# Altium footprint library Capacitors.PcbLib: 29 footprints (part 2 of 2)
Each footprint in its own frame and in the unit in brackets; x right, y up, seen from the top. Pads: shape width x height; smd on the part's side, far side on the other; paste and mask are expansions set on the pad; w line width, h text height; cw(c..) or ccw(c..) is an arc to the next point about the centre after c.
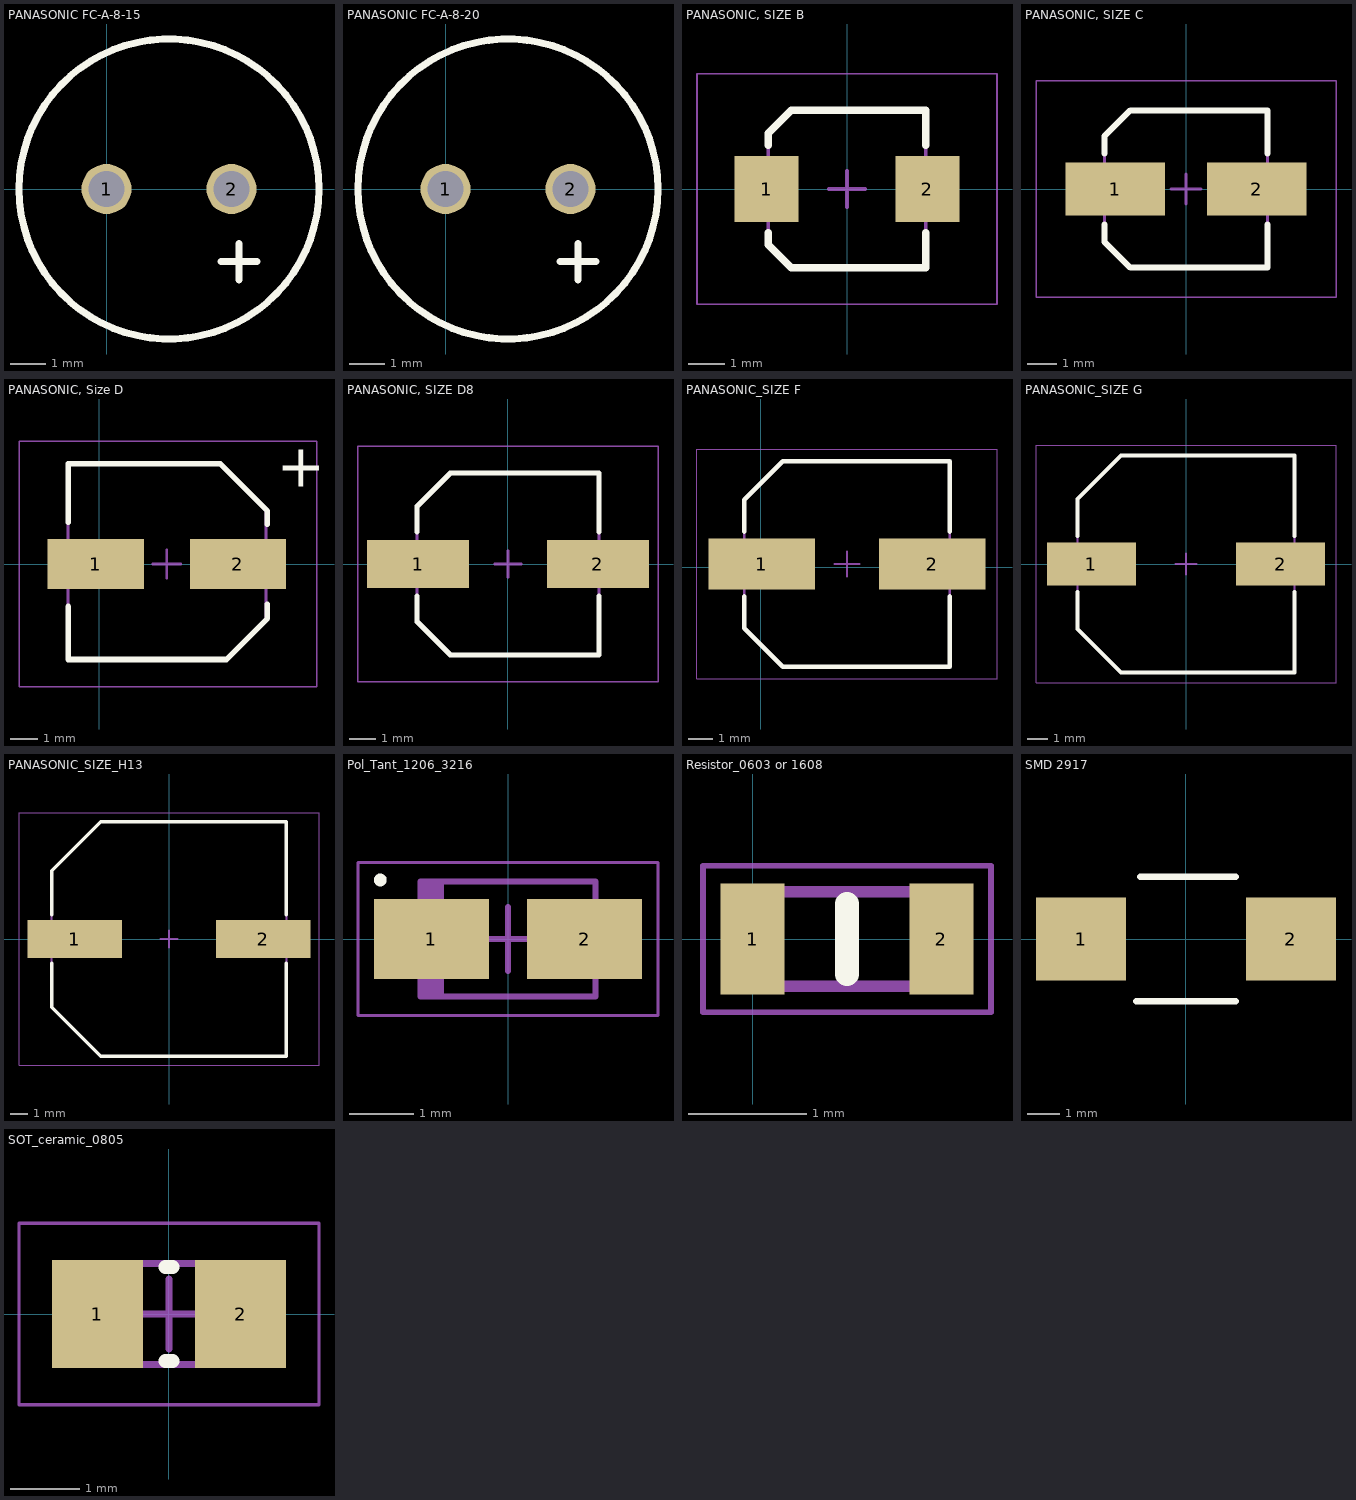
[diagram p1: the footprints below, top view; thin cyan lines are the x and y axes]

## PANASONIC FC-A-8-15 [mm]
pads (2):
  round 1.4 hole 1: 1(0,0) 2(3.5,0)
Top Overlay:
  circle w0.2: c1.75,0 r4.2
  lines w0.2: 3.202,-2.032 4.218,-2.032 ; 3.71,-2.54 3.71,-1.524
3D body: height 15, standoff 0, extent -2.222,-3.997 5.778,3.997

## PANASONIC FC-A-8-20 [mm]
pads (2):
  round 1.4 hole 1: 1(0,0) 2(3.5,0)
Top Overlay:
  circle w0.2: c1.75,0 r4.2
  lines w0.2: 3.202,-2.032 4.218,-2.032 ; 3.71,-2.54 3.71,-1.524
3D body: height 20, standoff 0, extent -2.222,-3.997 5.778,3.997

## PANASONIC, SIZE B [mm]
height 5.5
pads (2):
  rect 1.75x1.8 smd: 1(-2.2,0) 2(2.2,0)
Top Overlay:
  lines w0.2: -2.15,-1.2 -2.15,-1.525 -1.525,-2.15 2.15,-2.15 2.15,-1.2 ; -2.15,1.2 -2.15,1.525 -1.525,2.15 2.15,2.15 2.15,1.2
Mechanical 13:
  lines w0.1: -2.15,-1.525 -2.15,1.525 -1.525,2.15 2.15,2.15 2.15,-2.15 -1.525,-2.15 -2.15,-1.525
Mechanical 15:
  lines w0.05: -4.1,-3.15 4.1,-3.15 4.1,3.15 -4.1,3.15 -4.1,-3.15
  lines w0.1: -0.5,0 0.5,0 ; 0,-0.5 0,0.5
3D body "PANASONIC, SIZE B.step": height 5.5, standoff 0, extent -2.3,-2.15 2.3,2.15

## PANASONIC, SIZE C [mm] "PANASONIC, SIZE C"
height 6.1
pads (2):
  rect 3.35x1.8 smd: 1(-2.375,0) 2(2.375,0)
Top Overlay:
  lines w0.2: -2.75,-1.2 -2.75,-1.775 -1.875,-2.65 2.75,-2.65 2.75,-1.2 ; -2.75,1.2 -2.75,1.775 -1.875,2.65 2.75,2.65 2.75,1.2
Mechanical 13:
  lines w0.1: -2.75,-1.775 -2.75,1.775 -1.875,2.65 2.75,2.65 2.75,-2.65 -1.875,-2.65 -2.75,-1.775
Mechanical 15:
  lines w0.05: -5.05,-3.65 5.05,-3.65 5.05,3.65 -5.05,3.65 -5.05,-3.65
  lines w0.1: -0.5,0 0.5,0 ; 0,-0.5 0,0.5
3D body "PANASONIC, SIZE C.step": height 6.1, standoff 0, extent -3.25,-2.65 3.25,2.65

## PANASONIC, Size D [mm]
pads (2):
  rect 3.45x1.8 smd: 1(-0.137,0) 2(4.963,0)
Top Overlay:
  lines w0.2: -1.125,-1.525 -1.125,-3.425 4.55,-3.425 6.025,-1.95 6.025,-1.45 ; -1.125,1.5 -1.125,3.6 4.325,3.6 6.025,1.9 6.025,1.425
  text "+" at 6.35,2.775 h1.52
Mechanical 13:
  lines w0.1: 4.513,-3.4 -1.125,-3.4 -1.125,3.575 4.362,3.575 5.975,1.962 5.975,-1.962 4.537,-3.4
Mechanical 15:
  lines w0.05: -2.887,-4.4 -2.887,4.4 7.8,4.4 7.8,-4.4 -2.887,-4.4
  lines w0.1: 1.913,0 2.913,0 ; 2.413,-0.5 2.413,0.5
3D body "PANASONIC size d.Step": height 6.3, standoff 0, extent -1.1,-3.3 5.9,3.5

## PANASONIC, SIZE D8 [mm]
height 8
pads (2):
  rect 3.8x1.8 smd: 1(-3.358,0) 2(3.358,0)
Top Overlay:
  lines w0.2: -3.4,-1.2 -3.4,-2.15 -2.15,-3.4 3.4,-3.4 3.4,-1.2 ; -3.4,1.2 -3.4,2.15 -2.15,3.4 3.4,3.4 3.4,1.2
Mechanical 13:
  lines w0.1: -3.4,-2.15 -2.15,-3.4 3.4,-3.4 3.4,3.4 -2.15,3.4 -3.4,2.15 -3.4,-2.15
Mechanical 15:
  lines w0.05: -5.6,-4.4 -5.6,4.4 5.6,4.4 5.6,-4.4 -5.6,-4.4
  lines w0.1: -0.5,0 0.5,0 ; 0,-0.5 0,0.5
3D body "PANASONIC_D8.step": height 8, standoff 0, extent -3.8,-3.425 3.8,3.375

## PANASONIC_SIZE F [mm]
height 10
pads (2):
  rect 4.4x2.1 smd: 1(0.031,0.127) 2(7.081,0.127)
Top Overlay:
  lines w0.2: -0.694,-1.223 -0.694,-2.523 0.906,-4.123 7.806,-4.123 7.806,-1.223 ; -0.694,1.477 -0.694,2.777 0.906,4.377 7.806,4.377 7.806,1.477
Mechanical 13:
  lines w0.1: -0.694,-2.523 -0.694,2.777 0.906,4.377 7.806,4.377 7.806,-4.123 0.906,-4.123 -0.694,-2.523
Mechanical 15:
  lines w0.05: -2.644,-4.623 9.756,-4.623 9.756,4.877 -2.644,4.877 -2.644,-4.623
  lines w0.1: 3.056,0.127 4.056,0.127 ; 3.556,-0.373 3.556,0.627
3D body "CAPAE9883X105N.step": height 10.5, standoff 0, extent -1.319,-4.123 8.431,4.377

## PANASONIC_SIZE G [mm]
height 10.5
pads (2):
  rect 4.3x2.1 smd: 1(-4.575,0) 2(4.575,0)
Top Overlay:
  lines w0.2: -5.25,-1.35 -5.25,-3.15 -3.15,-5.25 5.25,-5.25 5.25,-1.35 ; -5.25,1.35 -5.25,3.15 -3.15,5.25 5.25,5.25 5.25,1.35
Mechanical 13:
  lines w0.1: -5.25,-3.15 -5.25,3.15 -3.15,5.25 5.25,5.25 5.25,-5.25 -3.15,-5.25 -5.25,-3.15
Mechanical 15:
  lines w0.05: -7.25,-5.75 7.25,-5.75 7.25,5.75 -7.25,5.75 -7.25,-5.75
  lines w0.1: -0.5,0 0.5,0 ; 0,-0.5 0,0.5
3D body "PANASONIC_SIZE G.step": height 10.5, standoff 0, extent -5.925,-5.25 5.925,5.25

## PANASONIC_SIZE_H13 [mm] "Aluminum Electrolytic Capacitor, Body 13.50x13.50x14.00mm, IPC Medium Density"
height 14
pads (2):
  rect 5.5x2.2 smd: 1(-5.5,0) 2(5.5,0)
Top Overlay:
  lines w0.2: -6.85,-1.4 -6.85,-3.975 -3.975,-6.85 6.85,-6.85 6.85,-1.4 ; -6.85,1.4 -6.85,3.975 -3.975,6.85 6.85,6.85 6.85,1.4
Mechanical 13:
  lines w0.1: -6.85,-3.975 -3.975,-6.85 6.85,-6.85 6.85,6.85 -3.975,6.85 -6.85,3.975 -6.85,-3.975
Mechanical 15:
  lines w0.05: -8.75,-7.35 -8.75,7.35 8.75,7.35 8.75,-7.35 -8.75,-7.35
  lines w0.1: -0.5,0 0.5,0 ; 0,-0.5 0,0.5
3D body "PANASONIC_SIZE_H13.step": height 14, standoff 0, extent -7.425,-6.85 7.425,6.85

## Pol_Tant_1206_3216 [mm] "Molded Capacitor, 2-Leads, Body 2.84x1.60mm, IPC Medium Density"
height 1.8
pads (2):
  rect 1.8x1.25 smd: 1(-1.2,0) 2(1.2,0)
Top Overlay:
  circle w0.1: c-2,0.925 r0.05
Mechanical 13:
  rectangle: -1.37,-0.9 -1.001,0.9
  lines w0.1: -1.37,-0.9 -1.37,0.9 1.37,0.9 1.37,-0.9 -1.37,-0.9
Mechanical 15:
  lines w0.05: -2.35,-1.2 -2.35,1.2 2.35,1.2 2.35,-1.2 -2.35,-1.2
  lines w0.1: -0.5,0 0.5,0 ; 0,-0.5 0,0.5
3D body "Pol_Tant_1206_3216.step": height 1.8, standoff 0, extent -1.59,-0.9 1.59,0.9

## Resistor_0603 or 1608 [mm]
height 2
pads (2):
  rect 0.54x0.94 smd: 1(0,0) 2(1.6,0)
Top Overlay:
  lines w0.2: 0.8,-0.3 0.8,0.3
Mechanical 13:
  lines w0.1: 0,-0.4 0,0.4 1.6,0.4 1.6,-0.4 0,-0.4
Mechanical 15:
  lines w0.05: -0.42,-0.62 -0.42,0.62 2.02,0.62 2.02,-0.62 -0.42,-0.62
3D body "C1608X5R1H105K080AB.stp": height 0.8, standoff 0, extent 0,-0.4 1.6,0.4

## SMD 2917 [mm] "SMD, EIA 2917, Metric 7343"
pads (2):
  rect 2.77x2.55 smd: 1(-3.22,0) 2(3.22,0)
Top Overlay:
  lines w0.2: -1.524,-1.905 1.524,-1.905 ; -1.397,1.905 1.524,1.905

## SOT_ceramic_0805 [mm] "Chip Capacitor SOT"
height 1.2
pads (2):
  rect 1.3x1.55 smd: 1(-1.025,0) 2(1.025,0)
Top Overlay:
  lines w0.2: -0.05,-0.675 0.05,-0.675 ; -0.05,0.675 0.05,0.675
Mechanical 13:
  lines w0.1: -1.1,-0.725 -1.1,0.725 1.1,0.725 1.1,-0.725 -1.1,-0.725
Mechanical 15:
  lines w0.05: -2.15,-1.3 -2.15,1.3 2.15,1.3 2.15,-1.3 -2.15,-1.3
  lines w0.1: -0.5,0 0.5,0 ; 0,-0.5 0,0.5
3D body "SOT.step": height 1.2, standoff 0, extent -1.1,-0.725 1.1,0.725